# EAGLE library part PIC18F14K50 (library g-e2e-training)
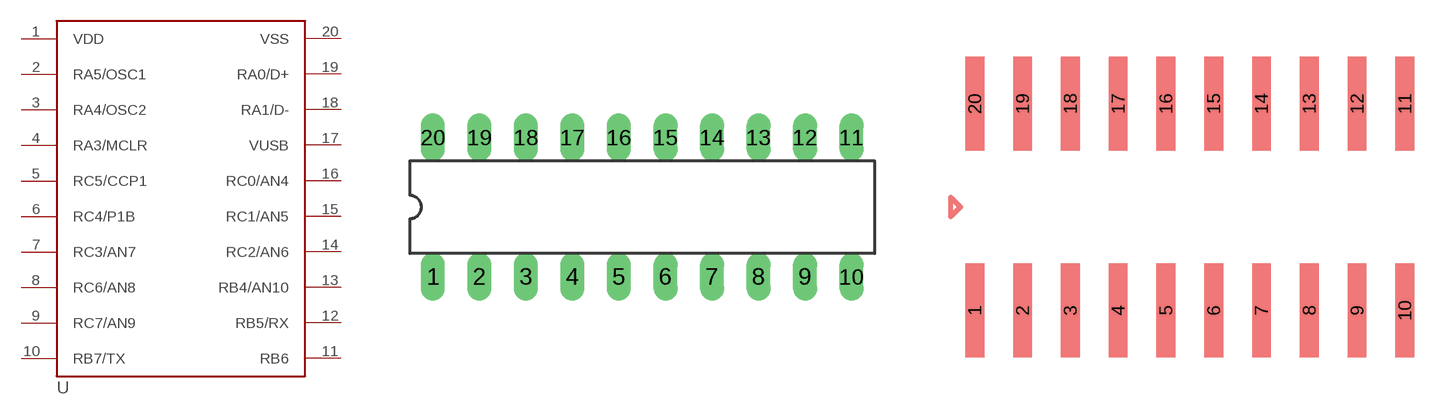
[diagram p0: symbol with the pads of DIL20; footprints DIL20, DIP20-SMD]

Designator prefix -

## PIC18F14K50  [DIL20]
1  VDD
2  RA5/OSC1
3  RA4/OSC2
4  RA3/MCLR
5  RC5/CCP1
6  RC4/P1B
7  RC3/AN7
8  RC6/AN8
9  RC7/AN9
10  RB7/TX
11  RB6
12  RB5/RX
13  RB4/AN10
14  RC2/AN6
15  RC1/AN5
16  RC0/AN4
17  VUSB
18  RA1/D-
19  RA0/D+
20  VSS

## PIC18F14K50DIL20-SMD  [DIP20-SMD]
Pads as for DIL20

## Footprint DIL20 (pad centres in mm)
drill 0.813 long: 1 -11.43,-3.81; 2 -8.89,-3.81; 3 -6.35,-3.81; 4 -3.81,-3.81; 5 -1.27,-3.81; 6 1.27,-3.81; 7 3.81,-3.81; 8 6.35,-3.81; 9 8.89,-3.81; 10 11.43,-3.81; 11 11.43,3.81; 12 8.89,3.81; 13 6.35,3.81; 14 3.81,3.81; 15 1.27,3.81; 16 -1.27,3.81; 17 -3.81,3.81; 18 -6.35,3.81; 19 -8.89,3.81; 20 -11.43,3.81

## Footprint DIP20-SMD (pad centres in mm)
DIP-20 package with an SMD socket.
smd 1 x 5: 1 -11.43,-5.5; 2 -8.89,-5.5; 3 -6.35,-5.5; 4 -3.81,-5.5; 5 -1.27,-5.5; 6 1.27,-5.5; 7 3.81,-5.5; 8 6.35,-5.5; 9 8.89,-5.5; 10 11.43,-5.5; 11 11.43,5.5; 12 8.89,5.5; 13 6.35,5.5; 14 3.81,5.5; 15 1.27,5.5; 16 -1.27,5.5; 17 -3.81,5.5; 18 -6.35,5.5; 19 -8.89,5.5; 20 -11.43,5.5